# Altium footprint library SOP.PcbLib: 214 footprints (part 12 of 14)
Each footprint in its own frame and in the unit in brackets; x right, y up, seen from the top. Pads: shape width x height; smd on the part's side, far side on the other; paste and mask are expansions set on the pad; w line width, h text height; cw(c..) or ccw(c..) is an arc to the next point about the centre after c.
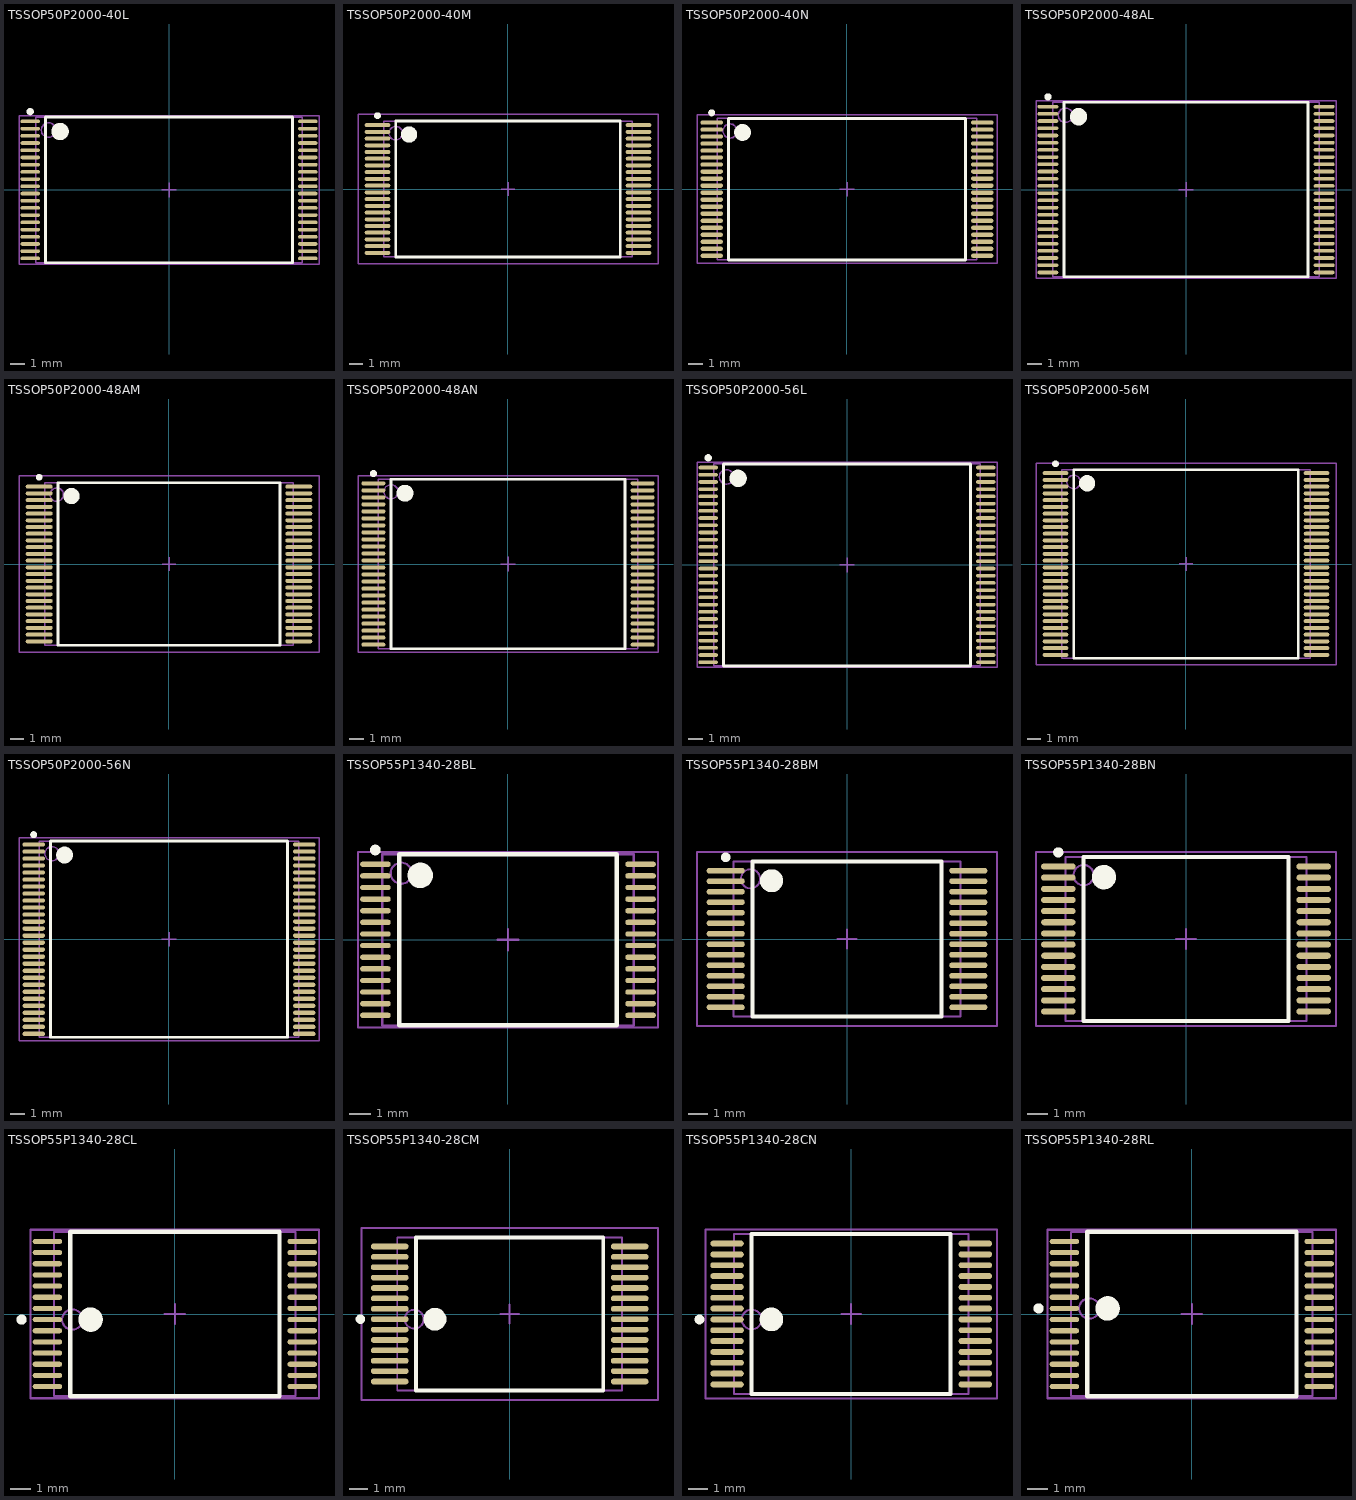
[diagram p11: the footprints below, top view; thin cyan lines are the x and y axes]

## TSSOP50P2000-40L [mm] "TSSOP, 40-Leads, Body 10x18.4mm, Pitch 0.5mm, IPC High Density"
height 1.2
pads (40):
  oval 1.35x0.25 smd: 1(-9.625,4.75) 2(-9.625,4.25) 3(-9.625,3.75) 4(-9.625,3.25) 5(-9.625,2.75) 6(-9.625,2.25) 7(-9.625,1.75) 8(-9.625,1.25) 9(-9.625,0.75) 10(-9.625,0.25) 11(-9.625,-0.25) 12(-9.625,-0.75) 13(-9.625,-1.25) 14(-9.625,-1.75) 15(-9.625,-2.25) 16(-9.625,-2.75) 17(-9.625,-3.25) 18(-9.625,-3.75) 19(-9.625,-4.25) 20(-9.625,-4.75) 21(9.625,-4.75) 22(9.625,-4.25) 23(9.625,-3.75) 24(9.625,-3.25) 25(9.625,-2.75) 26(9.625,-2.25) 27(9.625,-1.75) 28(9.625,-1.25) 29(9.625,-0.75) 30(9.625,-0.25) 31(9.625,0.25) 32(9.625,0.75) 33(9.625,1.25) 34(9.625,1.75) 35(9.625,2.25) 36(9.625,2.75) 37(9.625,3.25) 38(9.625,3.75) 39(9.625,4.25) 40(9.625,4.75)
Top Overlay:
  circle w0.6: c-7.55,4.05 r0.3
  circle w0.25: c-9.625,5.425 r0.125
  lines w0.2: -8.55,-5.05 8.55,-5.05 8.55,5.05 -8.55,5.05 -8.55,-5.05
Mechanical 13:
  circle w0.1: c-8.35,4.15 r0.5
  lines w0.1: -9.25,-5.05 9.25,-5.05 9.25,5.05 -9.25,5.05 -9.25,-5.05
Mechanical 15:
  lines w0.1: -0.5,0 0.5,0 ; 0,-0.5 0,0.5 ; -10.4,-5.15 10.4,-5.15 10.4,5.15 -10.4,5.15 -10.4,-5.15
3D body: height 1.2, standoff 0, extent -9.25,-5.05 9.25,5.05

## TSSOP50P2000-40M [mm] "TSSOP, 40-Leads, Body 10x18.4mm, Pitch 0.5mm, IPC Low Density"
height 1.2
pads (40):
  oval 1.9x0.3 smd: 1(-9.7,4.75) 2(-9.7,4.25) 3(-9.7,3.75) 4(-9.7,3.25) 5(-9.7,2.75) 6(-9.7,2.25) 7(-9.7,1.75) 8(-9.7,1.25) 9(-9.7,0.75) 10(-9.7,0.25) 11(-9.7,-0.25) 12(-9.7,-0.75) 13(-9.7,-1.25) 14(-9.7,-1.75) 15(-9.7,-2.25) 16(-9.7,-2.75) 17(-9.7,-3.25) 18(-9.7,-3.75) 19(-9.7,-4.25) 20(-9.7,-4.75) 21(9.7,-4.75) 22(9.7,-4.25) 23(9.7,-3.75) 24(9.7,-3.25) 25(9.7,-2.75) 26(9.7,-2.25) 27(9.7,-1.75) 28(9.7,-1.25) 29(9.7,-0.75) 30(9.7,-0.25) 31(9.7,0.25) 32(9.7,0.75) 33(9.7,1.25) 34(9.7,1.75) 35(9.7,2.25) 36(9.7,2.75) 37(9.7,3.25) 38(9.7,3.75) 39(9.7,4.25) 40(9.7,4.75)
Top Overlay:
  circle w0.25: c-9.7,5.45 r0.125
  circle w0.6: c-7.35,4.05 r0.3
  lines w0.2: -8.35,-5.05 -8.35,5.05 8.35,5.05 8.35,-5.05 -8.35,-5.05
Mechanical 13:
  circle w0.1: c-8.35,4.15 r0.5
  lines w0.1: -9.25,-5.05 -9.25,5.05 9.25,5.05 9.25,-5.05 -9.25,-5.05
Mechanical 15:
  lines w0.1: -0.5,0 0.5,0 ; 0,-0.5 0,0.5 ; -11.15,-5.55 -11.15,5.55 11.15,5.55 11.15,-5.55 -11.15,-5.55
3D body: height 1.2, standoff 0, extent -9.25,-5.05 9.25,5.05

## TSSOP50P2000-40N [mm] "TSSOP, 40-Leads, Body 10x18.4mm, Pitch 0.5mm, IPC Medium Density"
height 1.2
pads (40):
  oval 1.6x0.3 smd: 1(-9.65,4.75) 2(-9.65,4.25) 3(-9.65,3.75) 4(-9.65,3.25) 5(-9.65,2.75) 6(-9.65,2.25) 7(-9.65,1.75) 8(-9.65,1.25) 9(-9.65,0.75) 10(-9.65,0.25) 11(-9.65,-0.25) 12(-9.65,-0.75) 13(-9.65,-1.25) 14(-9.65,-1.75) 15(-9.65,-2.25) 16(-9.65,-2.75) 17(-9.65,-3.25) 18(-9.65,-3.75) 19(-9.65,-4.25) 20(-9.65,-4.75) 21(9.65,-4.75) 22(9.65,-4.25) 23(9.65,-3.75) 24(9.65,-3.25) 25(9.65,-2.75) 26(9.65,-2.25) 27(9.65,-1.75) 28(9.65,-1.25) 29(9.65,-0.75) 30(9.65,-0.25) 31(9.65,0.25) 32(9.65,0.75) 33(9.65,1.25) 34(9.65,1.75) 35(9.65,2.25) 36(9.65,2.75) 37(9.65,3.25) 38(9.65,3.75) 39(9.65,4.25) 40(9.65,4.75)
Top Overlay:
  circle w0.6: c-7.45,4.05 r0.3
  circle w0.25: c-9.65,5.45 r0.125
  lines w0.2: -8.45,-5.05 8.45,-5.05 8.45,5.05 -8.45,5.05 -8.45,-5.05
Mechanical 13:
  circle w0.1: c-8.35,4.15 r0.5
  lines w0.1: -9.25,-5.05 9.25,-5.05 9.25,5.05 -9.25,5.05 -9.25,-5.05
Mechanical 15:
  lines w0.1: -0.5,0 0.5,0 ; 0,-0.5 0,0.5 ; -10.7,-5.3 10.7,-5.3 10.7,5.3 -10.7,5.3 -10.7,-5.3
3D body: height 1.2, standoff 0, extent -9.25,-5.05 9.25,5.05

## TSSOP50P2000-48AL [mm] "TSSOP, 48-Leads, Body 12x18.4mm, Pitch 0.5mm, IPC High Density"
height 1.2
pads (48):
  oval 1.45x0.25 smd: 1(-9.575,5.75) 2(-9.575,5.25) 3(-9.575,4.75) 4(-9.575,4.25) 5(-9.575,3.75) 6(-9.575,3.25) 7(-9.575,2.75) 8(-9.575,2.25) 9(-9.575,1.75) 10(-9.575,1.25) 11(-9.575,0.75) 12(-9.575,0.25) 13(-9.575,-0.25) 14(-9.575,-0.75) 15(-9.575,-1.25) 16(-9.575,-1.75) 17(-9.575,-2.25) 18(-9.575,-2.75) 19(-9.575,-3.25) 20(-9.575,-3.75) 21(-9.575,-4.25) 22(-9.575,-4.75) 23(-9.575,-5.25) 24(-9.575,-5.75) 25(9.575,-5.75) 26(9.575,-5.25) 27(9.575,-4.75) 28(9.575,-4.25) 29(9.575,-3.75) 30(9.575,-3.25) 31(9.575,-2.75) 32(9.575,-2.25) 33(9.575,-1.75) 34(9.575,-1.25) 35(9.575,-0.75) 36(9.575,-0.25) 37(9.575,0.25) 38(9.575,0.75) 39(9.575,1.25) 40(9.575,1.75) 41(9.575,2.25) 42(9.575,2.75) 43(9.575,3.25) 44(9.575,3.75) 45(9.575,4.25) 46(9.575,4.75) 47(9.575,5.25) 48(9.575,5.75)
Top Overlay:
  circle w0.6: c-7.45,5.05 r0.3
  circle w0.25: c-9.575,6.425 r0.125
  lines w0.2: -8.45,-6.05 8.45,-6.05 8.45,6.05 -8.45,6.05 -8.45,-6.05
Mechanical 13:
  circle w0.1: c-8.35,5.15 r0.5
  lines w0.1: -9.25,-6.05 9.25,-6.05 9.25,6.05 -9.25,6.05 -9.25,-6.05
Mechanical 15:
  lines w0.1: -0.5,0 0.5,0 ; 0,-0.5 0,0.5 ; -10.4,-6.15 10.4,-6.15 10.4,6.15 -10.4,6.15 -10.4,-6.15
3D body: height 1.2, standoff 0, extent -9.25,-6.05 9.25,6.05

## TSSOP50P2000-48AM [mm] "TSSOP, 48-Leads, Body 12x18.4mm, Pitch 0.5mm, IPC Low Density"
height 1.2
pads (48):
  oval 2x0.3 smd: 1(-9.65,5.75) 2(-9.65,5.25) 3(-9.65,4.75) 4(-9.65,4.25) 5(-9.65,3.75) 6(-9.65,3.25) 7(-9.65,2.75) 8(-9.65,2.25) 9(-9.65,1.75) 10(-9.65,1.25) 11(-9.65,0.75) 12(-9.65,0.25) 13(-9.65,-0.25) 14(-9.65,-0.75) 15(-9.65,-1.25) 16(-9.65,-1.75) 17(-9.65,-2.25) 18(-9.65,-2.75) 19(-9.65,-3.25) 20(-9.65,-3.75) 21(-9.65,-4.25) 22(-9.65,-4.75) 23(-9.65,-5.25) 24(-9.65,-5.75) 25(9.65,-5.75) 26(9.65,-5.25) 27(9.65,-4.75) 28(9.65,-4.25) 29(9.65,-3.75) 30(9.65,-3.25) 31(9.65,-2.75) 32(9.65,-2.25) 33(9.65,-1.75) 34(9.65,-1.25) 35(9.65,-0.75) 36(9.65,-0.25) 37(9.65,0.25) 38(9.65,0.75) 39(9.65,1.25) 40(9.65,1.75) 41(9.65,2.25) 42(9.65,2.75) 43(9.65,3.25) 44(9.65,3.75) 45(9.65,4.25) 46(9.65,4.75) 47(9.65,5.25) 48(9.65,5.75)
Top Overlay:
  circle w0.6: c-7.25,5.05 r0.3
  circle w0.25: c-9.65,6.45 r0.125
  lines w0.2: -8.25,-6.05 8.25,-6.05 8.25,6.05 -8.25,6.05 -8.25,-6.05
Mechanical 13:
  circle w0.1: c-8.35,5.15 r0.5
  lines w0.1: -9.25,-6.05 9.25,-6.05 9.25,6.05 -9.25,6.05 -9.25,-6.05
Mechanical 15:
  lines w0.1: -0.5,0 0.5,0 ; 0,-0.5 0,0.5 ; -11.15,-6.55 11.15,-6.55 11.15,6.55 -11.15,6.55 -11.15,-6.55
3D body: height 1.2, standoff 0, extent -9.25,-6.05 9.25,6.05

## TSSOP50P2000-48AN [mm] "TSSOP, 48-Leads, Body 12x18.4mm, Pitch 0.5mm, IPC Medium Density"
height 1.2
pads (48):
  oval 1.7x0.3 smd: 1(-9.6,5.75) 2(-9.6,5.25) 3(-9.6,4.75) 4(-9.6,4.25) 5(-9.6,3.75) 6(-9.6,3.25) 7(-9.6,2.75) 8(-9.6,2.25) 9(-9.6,1.75) 10(-9.6,1.25) 11(-9.6,0.75) 12(-9.6,0.25) 13(-9.6,-0.25) 14(-9.6,-0.75) 15(-9.6,-1.25) 16(-9.6,-1.75) 17(-9.6,-2.25) 18(-9.6,-2.75) 19(-9.6,-3.25) 20(-9.6,-3.75) 21(-9.6,-4.25) 22(-9.6,-4.75) 23(-9.6,-5.25) 24(-9.6,-5.75) 25(9.6,-5.75) 26(9.6,-5.25) 27(9.6,-4.75) 28(9.6,-4.25) 29(9.6,-3.75) 30(9.6,-3.25) 31(9.6,-2.75) 32(9.6,-2.25) 33(9.6,-1.75) 34(9.6,-1.25) 35(9.6,-0.75) 36(9.6,-0.25) 37(9.6,0.25) 38(9.6,0.75) 39(9.6,1.25) 40(9.6,1.75) 41(9.6,2.25) 42(9.6,2.75) 43(9.6,3.25) 44(9.6,3.75) 45(9.6,4.25) 46(9.6,4.75) 47(9.6,5.25) 48(9.6,5.75)
Top Overlay:
  circle w0.6: c-7.35,5.05 r0.3
  circle w0.25: c-9.6,6.45 r0.125
  lines w0.2: -8.35,-6.05 8.35,-6.05 8.35,6.05 -8.35,6.05 -8.35,-6.05
Mechanical 13:
  circle w0.1: c-8.35,5.15 r0.5
  lines w0.1: -9.25,-6.05 9.25,-6.05 9.25,6.05 -9.25,6.05 -9.25,-6.05
Mechanical 15:
  lines w0.1: -0.5,0 0.5,0 ; 0,-0.5 0,0.5 ; -10.7,-6.3 10.7,-6.3 10.7,6.3 -10.7,6.3 -10.7,-6.3
3D body: height 1.2, standoff 0, extent -9.25,-6.05 9.25,6.05

## TSSOP50P2000-56L [mm] "TSSOP, 56-Leads, Body 14x18.4mm, Pitch 0.5mm, IPC High Density"
height 1.2
pads (56):
  oval 1.35x0.25 smd: 1(-9.625,6.75) 2(-9.625,6.25) 3(-9.625,5.75) 4(-9.625,5.25) 5(-9.625,4.75) 6(-9.625,4.25) 7(-9.625,3.75) 8(-9.625,3.25) 9(-9.625,2.75) 10(-9.625,2.25) 11(-9.625,1.75) 12(-9.625,1.25) 13(-9.625,0.75) 14(-9.625,0.25) 15(-9.625,-0.25) 16(-9.625,-0.75) 17(-9.625,-1.25) 18(-9.625,-1.75) 19(-9.625,-2.25) 20(-9.625,-2.75) 21(-9.625,-3.25) 22(-9.625,-3.75) 23(-9.625,-4.25) 24(-9.625,-4.75) 25(-9.625,-5.25) 26(-9.625,-5.75) 27(-9.625,-6.25) 28(-9.625,-6.75) 29(9.625,-6.75) 30(9.625,-6.25) 31(9.625,-5.75) 32(9.625,-5.25) 33(9.625,-4.75) 34(9.625,-4.25) 35(9.625,-3.75) 36(9.625,-3.25) 37(9.625,-2.75) 38(9.625,-2.25) 39(9.625,-1.75) 40(9.625,-1.25) 41(9.625,-0.75) 42(9.625,-0.25) 43(9.625,0.25) 44(9.625,0.75) 45(9.625,1.25) 46(9.625,1.75) 47(9.625,2.25) 48(9.625,2.75) 49(9.625,3.25) 50(9.625,3.75) 51(9.625,4.25) 52(9.625,4.75) 53(9.625,5.25) 54(9.625,5.75) 55(9.625,6.25) 56(9.625,6.75)
Top Overlay:
  circle w0.6: c-7.55,6 r0.3
  circle w0.25: c-9.625,7.425 r0.125
  lines w0.2: -8.55,-7 8.55,-7 8.55,7 -8.55,7 -8.55,-7
Mechanical 13:
  circle w0.1: c-8.35,6.1 r0.5
  lines w0.1: -9.25,-7 9.25,-7 9.25,7 -9.25,7 -9.25,-7
Mechanical 15:
  lines w0.1: -0.5,0 0.5,0 ; 0,-0.5 0,0.5 ; -10.4,-7.1 10.4,-7.1 10.4,7.1 -10.4,7.1 -10.4,-7.1
3D body: height 1.2, standoff 0, extent -9.25,-7 9.25,7

## TSSOP50P2000-56M [mm] "TSSOP, 56-Leads, Body 14x18.4mm, Pitch 0.5mm, IPC Low Density"
height 1.2
pads (56):
  oval 1.9x0.3 smd: 1(-9.7,6.75) 2(-9.7,6.25) 3(-9.7,5.75) 4(-9.7,5.25) 5(-9.7,4.75) 6(-9.7,4.25) 7(-9.7,3.75) 8(-9.7,3.25) 9(-9.7,2.75) 10(-9.7,2.25) 11(-9.7,1.75) 12(-9.7,1.25) 13(-9.7,0.75) 14(-9.7,0.25) 15(-9.7,-0.25) 16(-9.7,-0.75) 17(-9.7,-1.25) 18(-9.7,-1.75) 19(-9.7,-2.25) 20(-9.7,-2.75) 21(-9.7,-3.25) 22(-9.7,-3.75) 23(-9.7,-4.25) 24(-9.7,-4.75) 25(-9.7,-5.25) 26(-9.7,-5.75) 27(-9.7,-6.25) 28(-9.7,-6.75) 29(9.7,-6.75) 30(9.7,-6.25) 31(9.7,-5.75) 32(9.7,-5.25) 33(9.7,-4.75) 34(9.7,-4.25) 35(9.7,-3.75) 36(9.7,-3.25) 37(9.7,-2.75) 38(9.7,-2.25) 39(9.7,-1.75) 40(9.7,-1.25) 41(9.7,-0.75) 42(9.7,-0.25) 43(9.7,0.25) 44(9.7,0.75) 45(9.7,1.25) 46(9.7,1.75) 47(9.7,2.25) 48(9.7,2.75) 49(9.7,3.25) 50(9.7,3.75) 51(9.7,4.25) 52(9.7,4.75) 53(9.7,5.25) 54(9.7,5.75) 55(9.7,6.25) 56(9.7,6.75)
Top Overlay:
  circle w0.6: c-7.35,6 r0.3
  circle w0.25: c-9.7,7.45 r0.125
  lines w0.2: -8.35,-7 8.35,-7 8.35,7 -8.35,7 -8.35,-7
Mechanical 13:
  circle w0.1: c-8.35,6.1 r0.5
  lines w0.1: -9.25,-7 9.25,-7 9.25,7 -9.25,7 -9.25,-7
Mechanical 15:
  lines w0.1: -0.5,0 0.5,0 ; 0,-0.5 0,0.5 ; -11.15,-7.5 11.15,-7.5 11.15,7.5 -11.15,7.5 -11.15,-7.5
3D body: height 1.2, standoff 0, extent -9.25,-7 9.25,7

## TSSOP50P2000-56N [mm] "TSSOP, 56-Leads, Body 14x18.4mm, Pitch 0.5mm, IPC Medium Density"
height 1.2
pads (56):
  oval 1.6x0.3 smd: 1(-9.65,6.75) 2(-9.65,6.25) 3(-9.65,5.75) 4(-9.65,5.25) 5(-9.65,4.75) 6(-9.65,4.25) 7(-9.65,3.75) 8(-9.65,3.25) 9(-9.65,2.75) 10(-9.65,2.25) 11(-9.65,1.75) 12(-9.65,1.25) 13(-9.65,0.75) 14(-9.65,0.25) 15(-9.65,-0.25) 16(-9.65,-0.75) 17(-9.65,-1.25) 18(-9.65,-1.75) 19(-9.65,-2.25) 20(-9.65,-2.75) 21(-9.65,-3.25) 22(-9.65,-3.75) 23(-9.65,-4.25) 24(-9.65,-4.75) 25(-9.65,-5.25) 26(-9.65,-5.75) 27(-9.65,-6.25) 28(-9.65,-6.75) 29(9.65,-6.75) 30(9.65,-6.25) 31(9.65,-5.75) 32(9.65,-5.25) 33(9.65,-4.75) 34(9.65,-4.25) 35(9.65,-3.75) 36(9.65,-3.25) 37(9.65,-2.75) 38(9.65,-2.25) 39(9.65,-1.75) 40(9.65,-1.25) 41(9.65,-0.75) 42(9.65,-0.25) 43(9.65,0.25) 44(9.65,0.75) 45(9.65,1.25) 46(9.65,1.75) 47(9.65,2.25) 48(9.65,2.75) 49(9.65,3.25) 50(9.65,3.75) 51(9.65,4.25) 52(9.65,4.75) 53(9.65,5.25) 54(9.65,5.75) 55(9.65,6.25) 56(9.65,6.75)
Top Overlay:
  circle w0.6: c-7.45,6 r0.3
  circle w0.25: c-9.65,7.45 r0.125
  lines w0.2: -8.45,-7 8.45,-7 8.45,7 -8.45,7 -8.45,-7
Mechanical 13:
  circle w0.1: c-8.35,6.1 r0.5
  lines w0.1: -9.25,-7 9.25,-7 9.25,7 -9.25,7 -9.25,-7
Mechanical 15:
  lines w0.1: -0.5,0 0.5,0 ; 0,-0.5 0,0.5 ; -10.7,-7.25 10.7,-7.25 10.7,7.25 -10.7,7.25 -10.7,-7.25
3D body: height 1.2, standoff 0, extent -9.25,-7 9.25,7

## TSSOP55P1340-28BL [mm] "TSSOP, 28-Leads, Body 8x11.8mm, Pitch 0.55mm, IPC High Density"
height 1.2
pads (28):
  oval 1.45x0.25 smd: 1(-6.275,3.575) 2(-6.275,3.025) 3(-6.275,2.475) 4(-6.275,1.925) 5(-6.275,1.375) 6(-6.275,0.825) 7(-6.275,0.275) 8(-6.275,-0.275) 9(-6.275,-0.825) 10(-6.275,-1.375) 11(-6.275,-1.925) 12(-6.275,-2.475) 13(-6.275,-3.025) 14(-6.275,-3.575) 15(6.275,-3.575) 16(6.275,-3.025) 17(6.275,-2.475) 18(6.275,-1.925) 19(6.275,-1.375) 20(6.275,-0.825) 21(6.275,-0.275) 22(6.275,0.275) 23(6.275,0.825) 24(6.275,1.375) 25(6.275,1.925) 26(6.275,2.475) 27(6.275,3.025) 28(6.275,3.575)
Top Overlay:
  circle w0.25: c-6.275,4.25 r0.125
  circle w0.6: c-4.15,3.05 r0.3
  lines w0.2: -5.15,-4.05 -5.15,4.05 5.15,4.05 5.15,-4.05 -5.15,-4.05
Mechanical 13:
  circle w0.1: c-5.05,3.15 r0.5
  lines w0.1: -5.95,-4.05 -5.95,4.05 5.95,4.05 5.95,-4.05 -5.95,-4.05
Mechanical 15:
  lines w0.1: -0.5,0 0.5,0 ; 0,-0.5 0,0.5 ; -7.1,-4.15 -7.1,4.15 7.1,4.15 7.1,-4.15 -7.1,-4.15
3D body: height 1.2, standoff 0, extent -5.95,-4.05 5.95,4.05

## TSSOP55P1340-28BM [mm] "TSSOP, 28-Leads, Body 8x11.8mm, Pitch 0.55mm, IPC Low Density"
height 1.2
pads (28):
  oval 2x0.3 smd: 1(-6.35,3.575) 2(-6.35,3.025) 3(-6.35,2.475) 4(-6.35,1.925) 5(-6.35,1.375) 6(-6.35,0.825) 7(-6.35,0.275) 8(-6.35,-0.275) 9(-6.35,-0.825) 10(-6.35,-1.375) 11(-6.35,-1.925) 12(-6.35,-2.475) 13(-6.35,-3.025) 14(-6.35,-3.575) 15(6.35,-3.575) 16(6.35,-3.025) 17(6.35,-2.475) 18(6.35,-1.925) 19(6.35,-1.375) 20(6.35,-0.825) 21(6.35,-0.275) 22(6.35,0.275) 23(6.35,0.825) 24(6.35,1.375) 25(6.35,1.925) 26(6.35,2.475) 27(6.35,3.025) 28(6.35,3.575)
Top Overlay:
  circle w0.25: c-6.35,4.275 r0.125
  circle w0.6: c-3.95,3.05 r0.3
  lines w0.2: -4.95,-4.05 -4.95,4.05 4.95,4.05 4.95,-4.05 -4.95,-4.05
Mechanical 13:
  circle w0.1: c-5.05,3.15 r0.5
  lines w0.1: -5.95,-4.05 -5.95,4.05 5.95,4.05 5.95,-4.05 -5.95,-4.05
Mechanical 15:
  lines w0.1: -0.5,0 0.5,0 ; 0,-0.5 0,0.5 ; -7.85,-4.55 -7.85,4.55 7.85,4.55 7.85,-4.55 -7.85,-4.55
3D body: height 1.2, standoff 0, extent -5.95,-4.05 5.95,4.05

## TSSOP55P1340-28BN [mm] "TSSOP, 28-Leads, Body 8x11.8mm, Pitch 0.55mm, IPC Medium Density"
height 1.2
pads (28):
  oval 1.7x0.3 smd: 1(-6.3,3.575) 2(-6.3,3.025) 3(-6.3,2.475) 4(-6.3,1.925) 5(-6.3,1.375) 6(-6.3,0.825) 7(-6.3,0.275) 8(-6.3,-0.275) 9(-6.3,-0.825) 10(-6.3,-1.375) 11(-6.3,-1.925) 12(-6.3,-2.475) 13(-6.3,-3.025) 14(-6.3,-3.575) 15(6.3,-3.575) 16(6.3,-3.025) 17(6.3,-2.475) 18(6.3,-1.925) 19(6.3,-1.375) 20(6.3,-0.825) 21(6.3,-0.275) 22(6.3,0.275) 23(6.3,0.825) 24(6.3,1.375) 25(6.3,1.925) 26(6.3,2.475) 27(6.3,3.025) 28(6.3,3.575)
Top Overlay:
  circle w0.6: c-4.05,3.05 r0.3
  circle w0.25: c-6.3,4.275 r0.125
  lines w0.2: -5.05,-4.05 5.05,-4.05 5.05,4.05 -5.05,4.05 -5.05,-4.05
Mechanical 13:
  circle w0.1: c-5.05,3.15 r0.5
  lines w0.1: -5.95,-4.05 5.95,-4.05 5.95,4.05 -5.95,4.05 -5.95,-4.05
Mechanical 15:
  lines w0.1: -0.5,0 0.5,0 ; 0,-0.5 0,0.5 ; -7.4,-4.3 7.4,-4.3 7.4,4.3 -7.4,4.3 -7.4,-4.3
3D body: height 1.2, standoff 0.05, extent -5.95,-4.05 5.95,4.05

## TSSOP55P1340-28CL [mm] "TSSOP, 28-Leads, Body 8x11.8mm, Pitch 0.55mm, Unconventional Pinout, IPC High Density"
height 1.2
pads (28):
  oval 1.45x0.25 smd: 1(-6.275,-0.275) 2(-6.275,-0.825) 3(-6.275,-1.375) 4(-6.275,-1.925) 5(-6.275,-2.475) 6(-6.275,-3.025) 7(-6.275,-3.575) 8(6.275,-3.575) 9(6.275,-3.025) 10(6.275,-2.475) 11(6.275,-1.925) 12(6.275,-1.375) 13(6.275,-0.825) 14(6.275,-0.275) 15(6.275,0.275) 16(6.275,0.825) 17(6.275,1.375) 18(6.275,1.925) 19(6.275,2.475) 20(6.275,3.025) 21(6.275,3.575) 22(-6.275,3.575) 23(-6.275,3.025) 24(-6.275,2.475) 25(-6.275,1.925) 26(-6.275,1.375) 27(-6.275,0.825) 28(-6.275,0.275)
Top Overlay:
  circle w0.6: c-4.15,-0.275 r0.3
  circle w0.25: c-7.55,-0.275 r0.125
  lines w0.2: -5.15,-4.05 5.15,-4.05 5.15,4.05 -5.15,4.05 -5.15,-4.05
Mechanical 13:
  circle w0.1: c-5.05,-0.275 r0.5
  lines w0.1: -5.95,-4.05 5.95,-4.05 5.95,4.05 -5.95,4.05 -5.95,-4.05
Mechanical 15:
  lines w0.1: -0.5,0 0.5,0 ; 0,-0.5 0,0.5 ; -7.1,-4.15 7.1,-4.15 7.1,4.15 -7.1,4.15 -7.1,-4.15
3D body: height 1.2, standoff 0, extent -5.95,-4.05 5.95,4.05

## TSSOP55P1340-28CM [mm] "TSSOP, 28-Leads, Body 8x11.8mm, Pitch 0.55mm, Unconventional Pinout, IPC Low Density"
height 1.2
pads (28):
  oval 2x0.3 smd: 1(-6.35,-0.275) 2(-6.35,-0.825) 3(-6.35,-1.375) 4(-6.35,-1.925) 5(-6.35,-2.475) 6(-6.35,-3.025) 7(-6.35,-3.575) 8(6.35,-3.575) 9(6.35,-3.025) 10(6.35,-2.475) 11(6.35,-1.925) 12(6.35,-1.375) 13(6.35,-0.825) 14(6.35,-0.275) 15(6.35,0.275) 16(6.35,0.825) 17(6.35,1.375) 18(6.35,1.925) 19(6.35,2.475) 20(6.35,3.025) 21(6.35,3.575) 22(-6.35,3.575) 23(-6.35,3.025) 24(-6.35,2.475) 25(-6.35,1.925) 26(-6.35,1.375) 27(-6.35,0.825) 28(-6.35,0.275)
Top Overlay:
  circle w0.25: c-7.9,-0.275 r0.125
  circle w0.6: c-3.95,-0.275 r0.3
  lines w0.2: -4.95,-4.05 -4.95,4.05 4.95,4.05 4.95,-4.05 -4.95,-4.05
Mechanical 13:
  circle w0.1: c-5.05,-0.275 r0.5
  lines w0.1: -5.95,-4.05 -5.95,4.05 5.95,4.05 5.95,-4.05 -5.95,-4.05
Mechanical 15:
  lines w0.1: -0.5,0 0.5,0 ; 0,-0.5 0,0.5 ; -7.85,-4.55 -7.85,4.55 7.85,4.55 7.85,-4.55 -7.85,-4.55
3D body: height 1.2, standoff 0, extent -5.95,-4.05 5.95,4.05

## TSSOP55P1340-28CN [mm] "TSSOP, 28-Leads, Body 8x11.8mm, Pitch 0.55mm, Unconventional Pinout, IPC Medium Density"
height 1.2
pads (28):
  oval 1.7x0.3 smd: 1(-6.3,-0.275) 2(-6.3,-0.825) 3(-6.3,-1.375) 4(-6.3,-1.925) 5(-6.3,-2.475) 6(-6.3,-3.025) 7(-6.3,-3.575) 8(6.3,-3.575) 9(6.3,-3.025) 10(6.3,-2.475) 11(6.3,-1.925) 12(6.3,-1.375) 13(6.3,-0.825) 14(6.3,-0.275) 15(6.3,0.275) 16(6.3,0.825) 17(6.3,1.375) 18(6.3,1.925) 19(6.3,2.475) 20(6.3,3.025) 21(6.3,3.575) 22(-6.3,3.575) 23(-6.3,3.025) 24(-6.3,2.475) 25(-6.3,1.925) 26(-6.3,1.375) 27(-6.3,0.825) 28(-6.3,0.275)
Top Overlay:
  circle w0.6: c-4.05,-0.275 r0.3
  circle w0.25: c-7.7,-0.275 r0.125
  lines w0.2: -5.05,-4.05 5.05,-4.05 5.05,4.05 -5.05,4.05 -5.05,-4.05
Mechanical 13:
  circle w0.1: c-5.05,-0.275 r0.5
  lines w0.1: -5.95,-4.05 5.95,-4.05 5.95,4.05 -5.95,4.05 -5.95,-4.05
Mechanical 15:
  lines w0.1: -0.5,0 0.5,0 ; 0,-0.5 0,0.5 ; -7.4,-4.3 7.4,-4.3 7.4,4.3 -7.4,4.3 -7.4,-4.3
3D body: height 1.2, standoff 0.05, extent -5.95,-4.05 5.95,4.05

## TSSOP55P1340-28RL [mm] "TSSOP, 28-Leads, Body 8x11.8mm, Pitch 0.55mm, Reverse Pinning, IPC High Density"
height 1.29
pads (28):
  oval 1.45x0.25 smd: 1(-6.275,0.275) 2(-6.275,0.825) 3(-6.275,1.375) 4(-6.275,1.925) 5(-6.275,2.475) 6(-6.275,3.025) 7(-6.275,3.575) 8(6.275,3.575) 9(6.275,3.025) 10(6.275,2.475) 11(6.275,1.925) 12(6.275,1.375) 13(6.275,0.825) 14(6.275,0.275) 15(6.275,-0.275) 16(6.275,-0.825) 17(6.275,-1.375) 18(6.275,-1.925) 19(6.275,-2.475) 20(6.275,-3.025) 21(6.275,-3.575) 22(-6.275,-3.575) 23(-6.275,-3.025) 24(-6.275,-2.475) 25(-6.275,-1.925) 26(-6.275,-1.375) 27(-6.275,-0.825) 28(-6.275,-0.275)
Top Overlay:
  circle w0.6: c-4.15,0.275 r0.3
  circle w0.25: c-7.55,0.275 r0.125
  lines w0.2: -5.15,-4.05 5.15,-4.05 5.15,4.05 -5.15,4.05 -5.15,-4.05
Mechanical 13:
  circle w0.1: c-5.05,0.275 r0.5
  lines w0.1: -5.95,-4.05 5.95,-4.05 5.95,4.05 -5.95,4.05 -5.95,-4.05
Mechanical 15:
  lines w0.1: -0.5,0 0.5,0 ; 0,-0.5 0,0.5 ; -7.1,-4.15 7.1,-4.15 7.1,4.15 -7.1,4.15 -7.1,-4.15
3D body: height 1.29, standoff 0.05, extent -5.95,-4.05 5.95,4.05